# Altium integrated library Silicon Labs Small Form Factor MCUs.IntLib: 100 symbols (part 5 of 5)
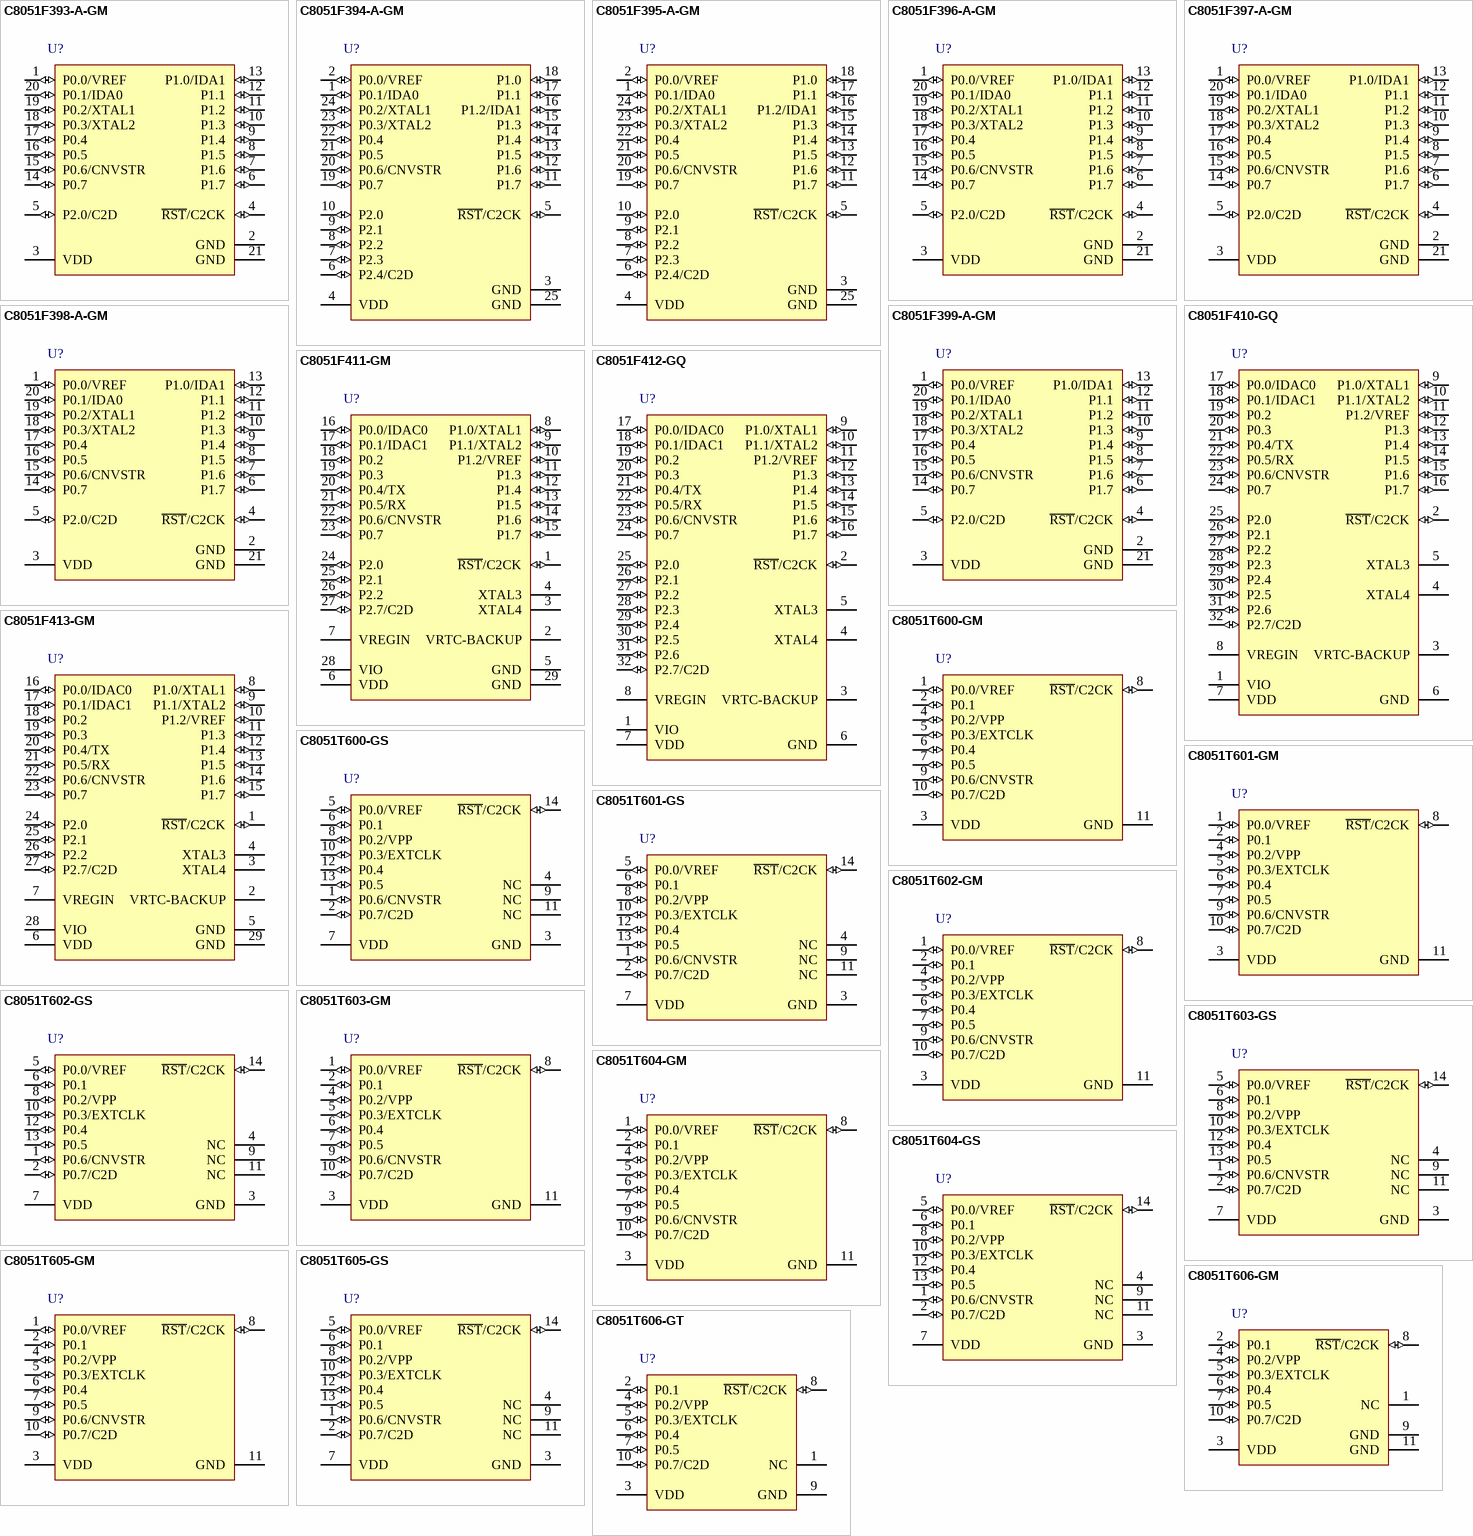
[diagram p8: symbols C8051F393-A-GM to C8051T606-GT]

## C8051T602-GM
designator U?
Mixed-Signal Byte-Programmable EPROM MCU, 25 MHz, 0.25 kB RAM, 4 kB OTP Flash, -40 to 85 degC, 11-pin QFN; Manufacturer: Silicon Labs; PartNumber: C8051T602-GM; ADC 1: 10-bit, 8-ch., 500 ksps; Comparators: 1; Debug Interface: C2; Dig I/O Pins: 8; Flash: 4 kB OTP; Internal Osc. Accuracy: +/-2%; MCU Core: 8051; MHz: 25; PCA Channels: 3; RAM: 0.25 kB; Temp Sensor: TRUE; Sub-Family: Small Form Factor MCUs; DatasheetVersion: Rev. 1.2; PackageReference: QFN-11; PackageDescription: 11-Pin Quad-Flat No-Leads Package, Body 3 x 3 mm, Pitch 0.5 mm; Supplier 1: Digi-Key; Supplier Part Number 1: 336-1654-5-ND; Supplier 2: Mouser; Supplier Part Number 2: 634-C8051T602-GM; Timers (16-bit): 3; Mounting Technology: Surface Mount; Code_JEDEC: MO-243; Code_IPC: J-STD-020C; ComponentLink1Description: Manufacturer URL; ComponentLink1URL: http://www.silabs.com/; ComponentLink2Description: Datasheet; ComponentLink2URL: http://www.silabs.com/Support Documents/TechnicalDocs/C8051T60x.pdf; ComponentLink3Description: Package Specification; ComponentLink3URL: http://www.silabs.com/Support%20Documents/TechnicalDocs/Si3462.pdf
footprint SLAB-QFN-11-1350x2250TP_N (QFN, 11-Leads, Body 3x3mm, Pitch 0.5mm, Thermal Pad 3x1.35mm, IPC Medium Density)
footprint SLAB-QFN-11-1350x2250TP_L (QFN, 11-Leads, Body 3x3mm, Pitch 0.5mm, Thermal Pad 3x1.35mm, IPC High Density)
footprint SLAB-QFN-11-1350x2250TP_M (QFN, 11-Leads, Body 3x3mm, Pitch 0.5mm, Thermal Pad 3x1.35mm, IPC Low Density)
pins: 1 P0.0/VREF (io), 2 P0.1 (io) "Port 0.1.", 3 VDD (power) "Power Supply Voltage.", 4 P0.2/VPP (io), 5 P0.3/EXTCLK (io), 6 P0.4 (io) "Port 0.4.", 7 P0.5 (io) "Port 0.5.", 8 ~{RST}/C2CK (io), 9 P0.6/CNVSTR (io), 10 P0.7/C2D (io), 11 GND (power) "Ground (Optional)."

## C8051T602-GS
designator U?
Mixed-Signal Byte-Programmable EPROM MCU, 25 MHz, 0.25 kB RAM, 4 kB OTP Flash, -40 to 85 degC, 14-pin SOIC; Manufacturer: Silicon Labs; PartNumber: C8051T602-GS; ADC 1: 10-bit, 8-ch., 500 ksps; Comparators: 1; Debug Interface: C2; Dig I/O Pins: 8; Flash: 4 kB OTP; Internal Osc. Accuracy: +/-2%; MCU Core: 8051; MHz: 25; PCA Channels: 3; RAM: 0.25 kB; Temp Sensor: TRUE; Sub-Family: Small Form Factor MCUs; DatasheetVersion: Rev. 1.2; PackageReference: SOIC-14; PackageDescription: 14-Pin Small-Outline Integrated Circuit, Body 8.65 x 3.9 mm, Pitch 1.27 mm; Supplier 1: Digi-Key; Supplier Part Number 1: 336-1655-5-ND; Supplier 2: Mouser; Supplier Part Number 2: 634-C8051T602-GS; Timers (16-bit): 3; Mounting Technology: Surface Mount; Code_JEDEC: MS012; Code_IPC: J-STD-020; ComponentLink1Description: Manufacturer URL; ComponentLink1URL: http://www.silabs.com/; ComponentLink2Description: Datasheet; ComponentLink2URL: http://www.silabs.com/Support Documents/TechnicalDocs/C8051T60x.pdf; ComponentLink3Description: Package Specification; ComponentLink3URL: http://www.silabs.com/Support Documents/TechnicalDocs/C8051T60x.pdf
footprint SLAB-SOIC-14_N (SOIC, 14-Leads, Body 8.65x3.9mm, Pitch 1.27mm, IPC Medium Density)
footprint SLAB-SOIC-14_L (SOIC, 14-Leads, Body 8.65x3.9mm, Pitch 1.27mm, IPC High Density)
footprint SLAB-SOIC-14_M (SOIC, 14-Leads, Body 8.65x3.9mm, Pitch 1.27mm, IPC Low Density)
pins: 1 P0.6/CNVSTR (io), 2 P0.7/C2D (io), 3 GND (power) "Ground.", 4 NC "No Connection.", 5 P0.0/VREF (io), 6 P0.1 (io) "Port 0.1.", 7 VDD (power) "Power Supply Voltage.", 8 P0.2/VPP (io), 9 NC "No Connection.", 10 P0.3/EXTCLK (io), 11 NC "No Connection.", 12 P0.4 (io) "Port 0.4.", 13 P0.5 (io) "Port 0.5.", 14 ~{RST}/C2CK (io)

## C8051T603-GM
designator U?
Mixed-Signal Byte-Programmable EPROM MCU, 25 MHz, 0.25 kB RAM, 4 kB OTP Flash, -40 to 85 degC, 11-pin QFN; Manufacturer: Silicon Labs; PartNumber: C8051T603-GM; Comparators: 1; Debug Interface: C2; Dig I/O Pins: 8; Flash: 4 kB OTP; Internal Osc. Accuracy: +/-2%; MCU Core: 8051; MHz: 25; PCA Channels: 3; RAM: 0.25 kB; Temp Sensor: FALSE; Sub-Family: Small Form Factor MCUs; DatasheetVersion: Rev. 1.2; PackageReference: QFN-11; PackageDescription: 11-Pin Quad-Flat No-Leads Package, Body 3 x 3 mm, Pitch 0.5 mm; Supplier 1: Digi-Key; Supplier Part Number 1: 336-1656-5-ND; Supplier 2: Mouser; Supplier Part Number 2: 634-C8051T603-GM; Timers (16-bit): 3; Mounting Technology: Surface Mount; Code_JEDEC: MO-243; Code_IPC: J-STD-020C; ComponentLink1Description: Manufacturer URL; ComponentLink1URL: http://www.silabs.com/; ComponentLink2Description: Datasheet; ComponentLink2URL: http://www.silabs.com/Support Documents/TechnicalDocs/C8051T60x.pdf; ComponentLink3Description: Package Specification; ComponentLink3URL: http://www.silabs.com/Support%20Documents/TechnicalDocs/Si3462.pdf
footprint SLAB-QFN-11-1350x2250TP_N (QFN, 11-Leads, Body 3x3mm, Pitch 0.5mm, Thermal Pad 3x1.35mm, IPC Medium Density)
footprint SLAB-QFN-11-1350x2250TP_L (QFN, 11-Leads, Body 3x3mm, Pitch 0.5mm, Thermal Pad 3x1.35mm, IPC High Density)
footprint SLAB-QFN-11-1350x2250TP_M (QFN, 11-Leads, Body 3x3mm, Pitch 0.5mm, Thermal Pad 3x1.35mm, IPC Low Density)
pins: 1 P0.0/VREF (io), 2 P0.1 (io) "Port 0.1.", 3 VDD (power) "Power Supply Voltage.", 4 P0.2/VPP (io), 5 P0.3/EXTCLK (io), 6 P0.4 (io) "Port 0.4.", 7 P0.5 (io) "Port 0.5.", 8 ~{RST}/C2CK (io), 9 P0.6/CNVSTR (io), 10 P0.7/C2D (io), 11 GND (power) "Ground (Optional)."

## C8051T603-GS
designator U?
Mixed-Signal Byte-Programmable EPROM MCU, 25 MHz, 0.25 kB RAM, 4 kB OTP Flash, -40 to 85 degC, 14-pin SOIC; Manufacturer: Silicon Labs; PartNumber: C8051T603-GS; Comparators: 1; Debug Interface: C2; Dig I/O Pins: 8; Flash: 4 kB OTP; Internal Osc. Accuracy: +/-2%; MCU Core: 8051; MHz: 25; PCA Channels: 3; RAM: 0.25 kB; Temp Sensor: FALSE; Sub-Family: Small Form Factor MCUs; DatasheetVersion: Rev. 1.2; PackageReference: SOIC-14; PackageDescription: 14-Pin Small-Outline Integrated Circuit, Body 8.65 x 3.9 mm, Pitch 1.27 mm; Supplier 1: Digi-Key; Supplier Part Number 1: 336-1657-5-ND; Supplier 2: Mouser; Supplier Part Number 2: 634-C8051T603-GS; Timers (16-bit): 3; Mounting Technology: Surface Mount; Code_JEDEC: MS012; Code_IPC: J-STD-020; ComponentLink1Description: Manufacturer URL; ComponentLink1URL: http://www.silabs.com/; ComponentLink2Description: Datasheet; ComponentLink2URL: http://www.silabs.com/Support Documents/TechnicalDocs/C8051T60x.pdf; ComponentLink3Description: Package Specification; ComponentLink3URL: http://www.silabs.com/Support Documents/TechnicalDocs/C8051T60x.pdf
footprint SLAB-SOIC-14_N (SOIC, 14-Leads, Body 8.65x3.9mm, Pitch 1.27mm, IPC Medium Density)
footprint SLAB-SOIC-14_L (SOIC, 14-Leads, Body 8.65x3.9mm, Pitch 1.27mm, IPC High Density)
footprint SLAB-SOIC-14_M (SOIC, 14-Leads, Body 8.65x3.9mm, Pitch 1.27mm, IPC Low Density)
pins: 1 P0.6/CNVSTR (io), 2 P0.7/C2D (io), 3 GND (power) "Ground.", 4 NC "No Connection.", 5 P0.0/VREF (io), 6 P0.1 (io) "Port 0.1.", 7 VDD (power) "Power Supply Voltage.", 8 P0.2/VPP (io), 9 NC "No Connection.", 10 P0.3/EXTCLK (io), 11 NC "No Connection.", 12 P0.4 (io) "Port 0.4.", 13 P0.5 (io) "Port 0.5.", 14 ~{RST}/C2CK (io)

## C8051T604-GM
designator U?
Mixed-Signal Byte-Programmable EPROM MCU, 25 MHz, 0.25 kB RAM, 2 kB OTP Flash, -40 to 85 degC, 11-pin QFN; Manufacturer: Silicon Labs; PartNumber: C8051T604-GM; ADC 1: 10-bit, 8-ch., 500 ksps; Comparators: 1; Debug Interface: C2; Dig I/O Pins: 8; Flash: 2 kB OTP; Internal Osc. Accuracy: +/-2%; MCU Core: 8051; MHz: 25; PCA Channels: 3; RAM: 0.25 kB; Temp Sensor: TRUE; Sub-Family: Small Form Factor MCUs; DatasheetVersion: Rev. 1.2; PackageReference: QFN-11; PackageDescription: 11-Pin Quad-Flat No-Leads Package, Body 3 x 3 mm, Pitch 0.5 mm; Supplier 1: Digi-Key; Supplier Part Number 1: 336-1658-5-ND; Supplier 2: Mouser; Supplier Part Number 2: 634-C8051T604-GM; Timers (16-bit): 3; Mounting Technology: Surface Mount; Code_JEDEC: MO-243; Code_IPC: J-STD-020C; ComponentLink1Description: Manufacturer URL; ComponentLink1URL: http://www.silabs.com/; ComponentLink2Description: Datasheet; ComponentLink2URL: http://www.silabs.com/Support Documents/TechnicalDocs/C8051T60x.pdf; ComponentLink3Description: Package Specification; ComponentLink3URL: http://www.silabs.com/Support%20Documents/TechnicalDocs/Si3462.pdf
footprint SLAB-QFN-11-1350x2250TP_N (QFN, 11-Leads, Body 3x3mm, Pitch 0.5mm, Thermal Pad 3x1.35mm, IPC Medium Density)
footprint SLAB-QFN-11-1350x2250TP_L (QFN, 11-Leads, Body 3x3mm, Pitch 0.5mm, Thermal Pad 3x1.35mm, IPC High Density)
footprint SLAB-QFN-11-1350x2250TP_M (QFN, 11-Leads, Body 3x3mm, Pitch 0.5mm, Thermal Pad 3x1.35mm, IPC Low Density)
pins: 1 P0.0/VREF (io), 2 P0.1 (io) "Port 0.1.", 3 VDD (power) "Power Supply Voltage.", 4 P0.2/VPP (io), 5 P0.3/EXTCLK (io), 6 P0.4 (io) "Port 0.4.", 7 P0.5 (io) "Port 0.5.", 8 ~{RST}/C2CK (io), 9 P0.6/CNVSTR (io), 10 P0.7/C2D (io), 11 GND (power) "Ground (Optional)."

## C8051T604-GS
designator U?
Mixed-Signal Byte-Programmable EPROM MCU, 25 MHz, 0.25 kB RAM, 2 kB OTP Flash, -40 to 85 degC, 14-pin SOIC; Manufacturer: Silicon Labs; PartNumber: C8051T604-GS; ADC 1: 10-bit, 8-ch., 500 ksps; Comparators: 1; Debug Interface: C2; Dig I/O Pins: 8; Flash: 2 kB OTP; Internal Osc. Accuracy: +/-2%; MCU Core: 8051; MHz: 25; PCA Channels: 3; RAM: 0.25 kB; Temp Sensor: TRUE; Sub-Family: Small Form Factor MCUs; DatasheetVersion: Rev. 1.2; PackageReference: SOIC-14; PackageDescription: 14-Pin Small-Outline Integrated Circuit, Body 8.65 x 3.9 mm, Pitch 1.27 mm; Supplier 1: Digi-Key; Supplier Part Number 1: 336-1659-5-ND; Supplier 2: Mouser; Supplier Part Number 2: 634-C8051T604-GS; Timers (16-bit): 3; Mounting Technology: Surface Mount; Code_JEDEC: MS012; Code_IPC: J-STD-020; ComponentLink1Description: Manufacturer URL; ComponentLink1URL: http://www.silabs.com/; ComponentLink2Description: Datasheet; ComponentLink2URL: http://www.silabs.com/Support Documents/TechnicalDocs/C8051T60x.pdf; ComponentLink3Description: Package Specification; ComponentLink3URL: http://www.silabs.com/Support Documents/TechnicalDocs/C8051T60x.pdf
footprint SLAB-SOIC-14_N (SOIC, 14-Leads, Body 8.65x3.9mm, Pitch 1.27mm, IPC Medium Density)
footprint SLAB-SOIC-14_L (SOIC, 14-Leads, Body 8.65x3.9mm, Pitch 1.27mm, IPC High Density)
footprint SLAB-SOIC-14_M (SOIC, 14-Leads, Body 8.65x3.9mm, Pitch 1.27mm, IPC Low Density)
pins: 1 P0.6/CNVSTR (io), 2 P0.7/C2D (io), 3 GND (power) "Ground.", 4 NC "No Connection.", 5 P0.0/VREF (io), 6 P0.1 (io) "Port 0.1.", 7 VDD (power) "Power Supply Voltage.", 8 P0.2/VPP (io), 9 NC "No Connection.", 10 P0.3/EXTCLK (io), 11 NC "No Connection.", 12 P0.4 (io) "Port 0.4.", 13 P0.5 (io) "Port 0.5.", 14 ~{RST}/C2CK (io)

## C8051T605-GM
designator U?
Mixed-Signal Byte-Programmable EPROM MCU, 25 MHz, 0.25 kB RAM, 2 kB OTP Flash, -40 to 85 degC, 11-pin QFN; Manufacturer: Silicon Labs; PartNumber: C8051T605-GM; Comparators: 1; Debug Interface: C2; Dig I/O Pins: 8; Flash: 2 kB OTP; Internal Osc. Accuracy: +/-2%; MCU Core: 8051; MHz: 25; PCA Channels: 3; RAM: 0.25 kB; Temp Sensor: FALSE; Sub-Family: Small Form Factor MCUs; DatasheetVersion: Rev. 1.2; PackageReference: QFN-11; PackageDescription: 11-Pin Quad-Flat No-Leads Package, Body 3 x 3 mm, Pitch 0.5 mm; Supplier 1: Digi-Key; Supplier Part Number 1: 336-1660-5-ND; Supplier 2: Mouser; Supplier Part Number 2: 634-C8051T605-GM; Timers (16-bit): 3; Mounting Technology: Surface Mount; Code_JEDEC: MO-243; Code_IPC: J-STD-020C; ComponentLink1Description: Manufacturer URL; ComponentLink1URL: http://www.silabs.com/; ComponentLink2Description: Datasheet; ComponentLink2URL: http://www.silabs.com/Support Documents/TechnicalDocs/C8051T60x.pdf; ComponentLink3Description: Package Specification; ComponentLink3URL: http://www.silabs.com/Support%20Documents/TechnicalDocs/Si3462.pdf
footprint SLAB-QFN-11-1350x2250TP_N (QFN, 11-Leads, Body 3x3mm, Pitch 0.5mm, Thermal Pad 3x1.35mm, IPC Medium Density)
footprint SLAB-QFN-11-1350x2250TP_L (QFN, 11-Leads, Body 3x3mm, Pitch 0.5mm, Thermal Pad 3x1.35mm, IPC High Density)
footprint SLAB-QFN-11-1350x2250TP_M (QFN, 11-Leads, Body 3x3mm, Pitch 0.5mm, Thermal Pad 3x1.35mm, IPC Low Density)
pins: 1 P0.0/VREF (io), 2 P0.1 (io) "Port 0.1.", 3 VDD (power) "Power Supply Voltage.", 4 P0.2/VPP (io), 5 P0.3/EXTCLK (io), 6 P0.4 (io) "Port 0.4.", 7 P0.5 (io) "Port 0.5.", 8 ~{RST}/C2CK (io), 9 P0.6/CNVSTR (io), 10 P0.7/C2D (io), 11 GND (power) "Ground (Optional)."

## C8051T605-GS
designator U?
Mixed-Signal Byte-Programmable EPROM MCU, 25 MHz, 0.25 kB RAM, 2 kB OTP Flash, -40 to 85 degC, 14-pin SOIC; Manufacturer: Silicon Labs; PartNumber: C8051T605-GS; Comparators: 1; Debug Interface: C2; Dig I/O Pins: 8; Flash: 2 kB OTP; Internal Osc. Accuracy: +/-2%; MCU Core: 8051; MHz: 25; PCA Channels: 3; RAM: 0.25 kB; Temp Sensor: FALSE; Sub-Family: Small Form Factor MCUs; DatasheetVersion: Rev. 1.2; PackageReference: SOIC-14; PackageDescription: 14-Pin Small-Outline Integrated Circuit, Body 8.65 x 3.9 mm, Pitch 1.27 mm; Supplier 1: Digi-Key; Supplier Part Number 1: 336-1661-5-ND; Supplier 2: Mouser; Supplier Part Number 2: 634-C8051T605-GS; Timers (16-bit): 3; Mounting Technology: Surface Mount; Code_JEDEC: MS012; Code_IPC: J-STD-020; ComponentLink1Description: Manufacturer URL; ComponentLink1URL: http://www.silabs.com/; ComponentLink2Description: Datasheet; ComponentLink2URL: http://www.silabs.com/Support Documents/TechnicalDocs/C8051T60x.pdf; ComponentLink3Description: Package Specification; ComponentLink3URL: http://www.silabs.com/Support Documents/TechnicalDocs/C8051T60x.pdf
footprint SLAB-SOIC-14_N (SOIC, 14-Leads, Body 8.65x3.9mm, Pitch 1.27mm, IPC Medium Density)
footprint SLAB-SOIC-14_L (SOIC, 14-Leads, Body 8.65x3.9mm, Pitch 1.27mm, IPC High Density)
footprint SLAB-SOIC-14_M (SOIC, 14-Leads, Body 8.65x3.9mm, Pitch 1.27mm, IPC Low Density)
pins: 1 P0.6/CNVSTR (io), 2 P0.7/C2D (io), 3 GND (power) "Ground.", 4 NC "No Connection.", 5 P0.0/VREF (io), 6 P0.1 (io) "Port 0.1.", 7 VDD (power) "Power Supply Voltage.", 8 P0.2/VPP (io), 9 NC "No Connection.", 10 P0.3/EXTCLK (io), 11 NC "No Connection.", 12 P0.4 (io) "Port 0.4.", 13 P0.5 (io) "Port 0.5.", 14 ~{RST}/C2CK (io)

## C8051T606-GM
designator U?
Mixed-Signal Byte-Programmable EPROM MCU, 25 MHz, 0.125 kB RAM, 1.5 kB OTP Flash, -40 to 85 degC, 11-pin QFN; Manufacturer: Silicon Labs; PartNumber: C8051T606-GM; Comparators: 1; Debug Interface: C2; Dig I/O Pins: 6; Internal Osc. Accuracy: +/-2%; MCU Core: 8051; MHz: 25; PCA Channels: 3; Temp Sensor: FALSE; Sub-Family: Small Form Factor MCUs; DatasheetVersion: Rev. 1.2; PackageReference: QFN-11; PackageDescription: 11-Pin Quad-Flat No-Leads Package, Body 3 x 3 mm, Pitch 0.5 mm; Supplier 1: Digi-Key; Supplier Part Number 1: 336-1662-5-ND; Supplier 2: Mouser; Supplier Part Number 2: 634-C8051T606-GM; Flash: 1.5 kB OTP; RAM: 0.125 kB; Timers (16-bit): 3; Mounting Technology: Surface Mount; Code_JEDEC: MO-243; Code_IPC: J-STD-020C; ComponentLink1Description: Manufacturer URL; ComponentLink1URL: http://www.silabs.com/; ComponentLink2Description: Datasheet; ComponentLink2URL: http://www.silabs.com/Support Documents/TechnicalDocs/C8051T60x.pdf; ComponentLink3Description: Package Specification; ComponentLink3URL: http://www.silabs.com/Support%20Documents/TechnicalDocs/Si3462.pdf
footprint SLAB-QFN-11-1350x2250TP_N (QFN, 11-Leads, Body 3x3mm, Pitch 0.5mm, Thermal Pad 3x1.35mm, IPC Medium Density)
footprint SLAB-QFN-11-1350x2250TP_L (QFN, 11-Leads, Body 3x3mm, Pitch 0.5mm, Thermal Pad 3x1.35mm, IPC High Density)
footprint SLAB-QFN-11-1350x2250TP_M (QFN, 11-Leads, Body 3x3mm, Pitch 0.5mm, Thermal Pad 3x1.35mm, IPC Low Density)
pins: 1 NC "No Connection.", 2 P0.1 (io) "Port 0.1.", 3 VDD (power) "Power Supply Voltage.", 4 P0.2/VPP (io), 5 P0.3/EXTCLK (io), 6 P0.4 (io) "Port 0.4.", 7 P0.5 (io) "Port 0.5.", 8 ~{RST}/C2CK (io), 9 GND (power) "Ground (Required).", 10 P0.7/C2D (io), 11 GND (power) "Ground (Optional)."

## C8051T606-GT
designator U?
Mixed-Signal Byte-Programmable EPROM MCU, 25 MHz, 0.125 kB RAM, 1.5 kB OTP Flash, -40 to 85 degC, 10-pin SOP; Manufacturer: Silicon Labs; PartNumber: C8051T606-GT; Comparators: 1; Debug Interface: C2; Dig I/O Pins: 6; Internal Osc. Accuracy: +/-2%; MCU Core: 8051; MHz: 25; PCA Channels: 3; Temp Sensor: FALSE; Sub-Family: Small Form Factor MCUs; DatasheetVersion: Rev. 1.2; PackageReference: MSOP-10; PackageDescription: 10-Pin Mini Small Outline Package, Body 3 x 3 mm, Pitch 0.5 mm; Supplier 1: Digi-Key; Supplier Part Number 1: 336-1664-5-ND; Supplier 2: Mouser; Supplier Part Number 2: 634-C8051T606-GT; Flash: 1.5 kB OTP; RAM: 0.125 kB; Timers (16-bit): 3; Mounting Technology: Surface Mount; Code_JEDEC: MO-187; Code_IPC: J-STD-020; ComponentLink1Description: Manufacturer URL; ComponentLink1URL: http://www.silabs.com/; ComponentLink2Description: Datasheet; ComponentLink2URL: http://www.silabs.com/Support Documents/TechnicalDocs/C8051T60x.pdf; ComponentLink3Description: Package Specification; ComponentLink3URL: http://www.silabs.com/Support Documents/TechnicalDocs/C8051T60x.pdf
footprint SLAB-MSOP-10_N (SOP, 10-Leads, Body 3x3mm, Pitch 0.5mm, IPC Medium Density)
footprint SLAB-MSOP-10_L (SOP, 10-Leads, Body 3x3mm, Pitch 0.5mm, IPC High Density)
footprint SLAB-MSOP-10_M (SOP, 10-Leads, Body 3x3mm, Pitch 0.5mm, IPC Low Density)
pins: 1 NC "No Connection.", 2 P0.1 (io) "Port 0.1.", 3 VDD (power) "Power Supply Voltage.", 4 P0.2/VPP (io), 5 P0.3/EXTCLK (io), 6 P0.4 (io) "Port 0.4.", 7 P0.5 (io) "Port 0.5.", 8 ~{RST}/C2CK (io), 9 GND (power) "Ground (Required).", 10 P0.7/C2D (io)

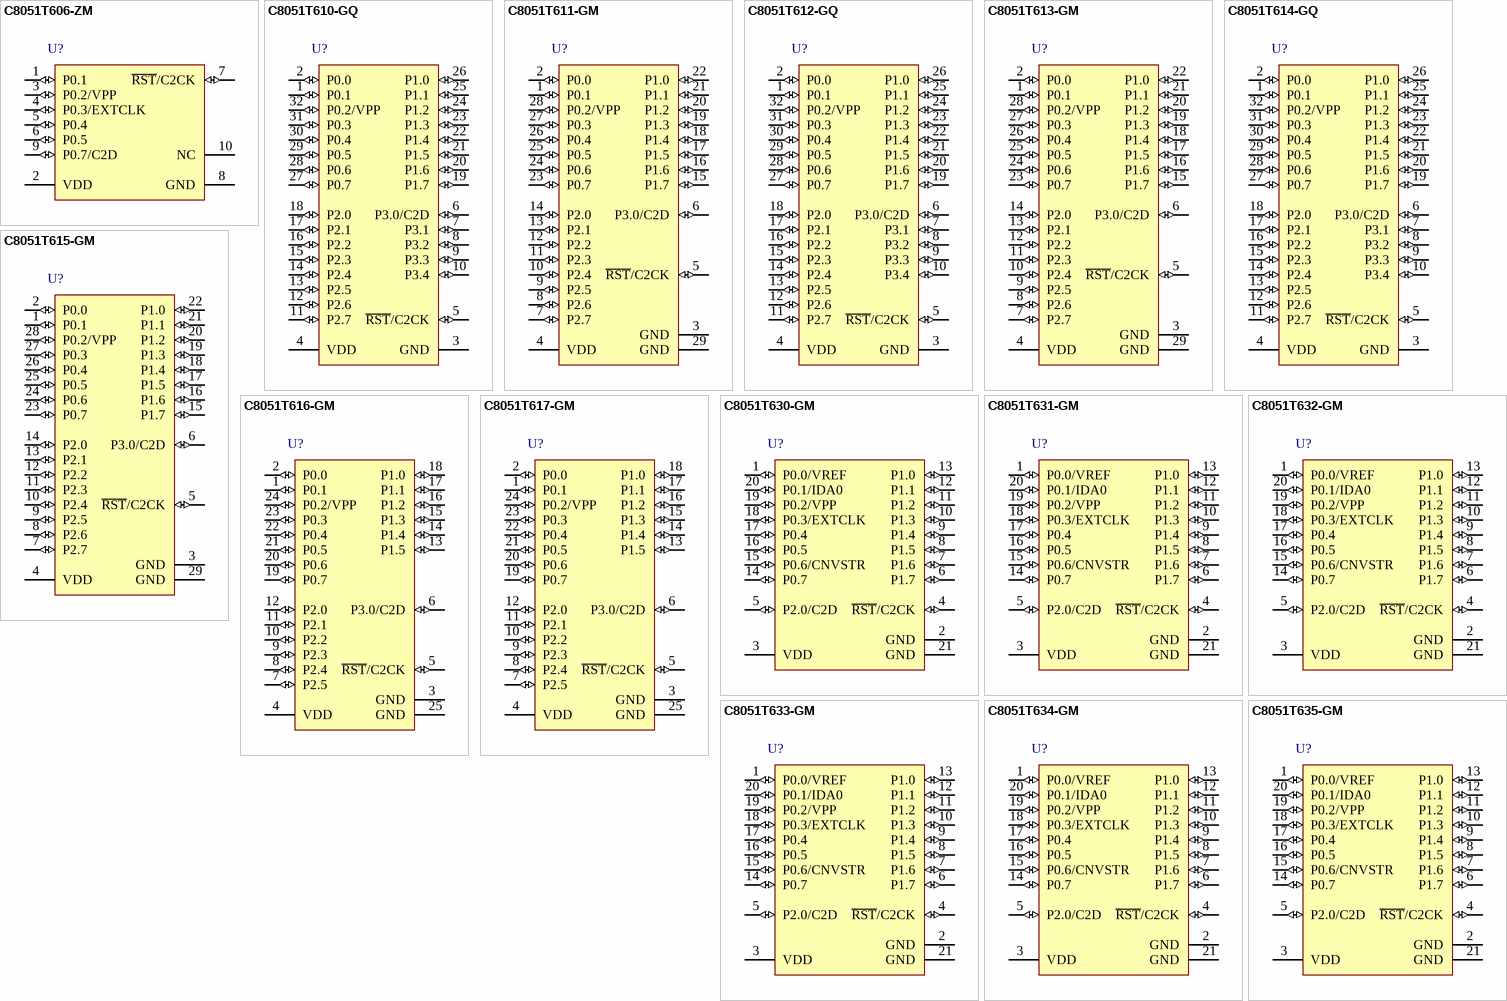
[diagram p4: symbols C8051T606-ZM to C8051T635-GM]

## C8051T606-ZM
designator U?
Mixed-Signal Byte-Programmable EPROM MCU, 25 MHz, 0.125 kB RAM, 1.5 kB OTP Flash, -40 to 85 degC, 10-pin QFN; Manufacturer: Silicon Labs; PartNumber: C8051T606-ZM; Comparators: 1; Debug Interface: C2; Dig I/O Pins: 6; Internal Osc. Accuracy: +/-2%; MCU Core: 8051; MHz: 25; PCA Channels: 3; Temp Sensor: FALSE; Sub-Family: Small Form Factor MCUs; DatasheetVersion: Rev. 1.2; PackageReference: QFN-10; PackageDescription: 10-Pin Quad-Flat No-Leads Package, Body 2 x 2 mm, Pitch 0.5 mm; Supplier 1: Digi-Key; Supplier Part Number 1: C8051T606-ZM-ND; Supplier 2: Mouser; Supplier Part Number 2: 634-C8051T606-ZM; Flash: 1.5 kB OTP; RAM: 0.125 kB; Timers (16-bit): 3; Mounting Technology: Surface Mount; Code_JEDEC: MO-220; Code_IPC: J-STD-020; ComponentLink1Description: Manufacturer URL; ComponentLink1URL: http://www.silabs.com/; ComponentLink2Description: Datasheet; ComponentLink2URL: http://www.silabs.com/Support Documents/TechnicalDocs/C8051T60x.pdf; ComponentLink3Description: Package Specification; ComponentLink3URL: http://www.silabs.com/Support%20Documents/TechnicalDocs/Si114x.pdf
footprint SLAB-QFN-10_V (QFN, 10-Leads, Body 2x2mm, Pitch 0.5mm)
pins: 1 P0.1 (io) "Port 0.1.", 2 VDD (power) "Power Supply Voltage.", 3 P0.2/VPP (io), 4 P0.3/EXTCLK (io), 5 P0.4 (io) "Port 0.4.", 6 P0.5 (io) "Port 0.5.", 7 ~{RST}/C2CK (io), 8 GND (power) "Ground (Required).", 9 P0.7/C2D (io), 10 NC "No Connection."

## C8051T610-GQ
designator U?
Mixed-Signal Byte-Programmable EPROM MCU, 25 MHz, 1.25 kB RAM, 16 kB OTP Flash, -40 to 85 degC, 32-pin QFP; Manufacturer: Silicon Labs; PartNumber: C8051T610-GQ; ADC 1: 10-bit, 21-ch., 500 ksps; Comparators: 2; Debug Interface: C2; Dig I/O Pins: 29; Internal Osc. Accuracy: +/-2%; MCU Core: 8051; MHz: 25; PCA Channels: 5; RAM: 1.25 kB; Temp Sensor: TRUE; Timers (16-bit): 4; Sub-Family: Small Form Factor MCUs; DatasheetVersion: Rev. 1.1; PackageReference: LQFP-32; PackageDescription: 32-Pin Low-Profile Quad Flat Pack, Body 7 x 7 mm, Pitch 0.8 mm; Supplier 1: Digi-Key; Supplier Part Number 1: 336-1435-ND; Supplier 2: Mouser; Supplier Part Number 2: 634-C8051T610-GQ; Flash: 16 kB OTP; Mounting Technology: Surface Mount; Code_JEDEC: MS-026; Code_IPC: J-STD-020; ComponentLink1Description: Manufacturer URL; ComponentLink1URL: http://www.silabs.com/; ComponentLink2Description: Datasheet; ComponentLink2URL: http://www.silabs.com/Support Documents/TechnicalDocs/C8051T61x.pdf; ComponentLink3Description: Package Specification; ComponentLink3URL: http://www.silabs.com/Support%20Documents/TechnicalDocs/C8051F38x.pdf
footprint SLAB-LQFP-32_N (QFP, 32-Leads, Body 7x7mm, Pitch 0.8mm, IPC Medium Density)
footprint SLAB-LQFP-32_L (QFP, 32-Leads, Body 7x7mm, Pitch 0.8mm, IPC High Density)
footprint SLAB-LQFP-32_M (QFP, 32-Leads, Body 7x7mm, Pitch 0.8mm, IPC Low Density)
pins: 1 P0.1 (io) "Port 0.1.", 2 P0.0 (io) "Port 0.0.", 3 GND (power) "Ground.", 4 VDD (power) "Power Supply Voltage.", 5 ~{RST}/C2CK (io), 6 P3.0/C2D (io), 7 P3.1 (io) "Port 3.1.", 8 P3.2 (io) "Port 3.2.", 9 P3.3 (io) "Port 3.3.", 10 P3.4 (io) "Port 3.4.", 11 P2.7 (io) "Port 2.7.", 12 P2.6 (io) "Port 2.6.", 13 P2.5 (io) "Port 2.5.", 14 P2.4 (io) "Port 2.4.", 15 P2.3 (io) "Port 2.3.", 16 P2.2 (io) "Port 2.2.", 17 P2.1 (io) "Port 2.1.", 18 P2.0 (io) "Port 2.0", 19 P1.7 (io) "Port 1.7.", 20 P1.6 (io) "Port 1.6.", 21 P1.5 (io) "Port 1.5.", 22 P1.4 (io) "Port 1.4.", 23 P1.3 (io) "Port 1.3.", 24 P1.2 (io) "Port 1.2.", 25 P1.1 (io) "Port 1.1.", 26 P1.0 (io) "Port 1.0", 27 P0.7 (io) "Port 0.7", 28 P0.6 (io) "Port 0.6", 29 P0.5 (io) "Port 0.5", 30 P0.4 (io) "Port 0.4", 31 P0.3 (io) "Port 0.3", 32 P0.2/VPP (io)

## C8051T611-GM
designator U?
Mixed-Signal Byte-Programmable EPROM MCU, 25 MHz, 1.25 kB RAM, 16 kB OTP Flash, -40 to 85 degC, 28-pin QFN; Manufacturer: Silicon Labs; PartNumber: C8051T611-GM; ADC 1: 10-bit, 17-ch., 500 ksps; Comparators: 2; Debug Interface: C2; Dig I/O Pins: 25; Internal Osc. Accuracy: +/-2%; MCU Core: 8051; PCA Channels: 5; RAM: 1.25 kB; Temp Sensor: TRUE; Timers (16-bit): 4; Sub-Family: Small Form Factor MCUs; DatasheetVersion: Rev. 1.1; PackageReference: QFN-28; PackageDescription: 28-Pin Quad-Flat No-Leads Package, Body 5 x 5 mm, Pitch 0.5 mm; Supplier 1: Digi-Key; Supplier Part Number 1: 336-1436-5-ND; Supplier 2: Mouser; Supplier Part Number 2: 634-C8051T611-GM; Flash: 16 kB OTP; MHz: 25; Mounting Technology: Surface Mount; Code_JEDEC: MO-220; Code_IPC: J-STD-020C; ComponentLink1Description: Manufacturer URL; ComponentLink1URL: http://www.silabs.com/; ComponentLink2Description: Datasheet; ComponentLink2URL: http://www.silabs.com/Support Documents/TechnicalDocs/C8051T61x.pdf; ComponentLink3Description: Package Specification; ComponentLink3URL: http://www.silabs.com/Support%20Documents/TechnicalDocs/C8051T61x.pdf
footprint SLAB-QFN-28-3125x3125TP_N (QFN, 28-Leads, Body 5x5mm, Pitch 0.5mm, Thermal Pad 3.13x3.13mm, IPC Medium Density)
footprint SLAB-QFN-28-3125x3125TP_L (QFN, 28-Leads, Body 5x5mm, Pitch 0.5mm, Thermal Pad 3.13x3.13mm, IPC High Density)
footprint SLAB-QFN-28-3125x3125TP_M (QFN, 28-Leads, Body 5x5mm, Pitch 0.5mm, Thermal Pad 3.13x3.13mm, IPC Low Density)
pins: 1 P0.1 (io) "Port 0.1.", 2 P0.0 (io) "Port 0.0.", 3 GND (power) "Ground.", 4 VDD (power) "Power Supply Voltage.", 5 ~{RST}/C2CK (io), 6 P3.0/C2D (io), 7 P2.7 (io) "Port 2.7.", 8 P2.6 (io) "Port 2.6.", 9 P2.5 (io) "Port 2.5.", 10 P2.4 (io) "Port 2.4.", 11 P2.3 (io) "Port 2.3.", 12 P2.2 (io) "Port 2.2.", 13 P2.1 (io) "Port 2.1.", 14 P2.0 (io) "Port 2.0", 15 P1.7 (io) "Port 1.7.", 16 P1.6 (io) "Port 1.6.", 17 P1.5 (io) "Port 1.5.", 18 P1.4 (io) "Port 1.4.", 19 P1.3 (io) "Port 1.3.", 20 P1.2 (io) "Port 1.2.", 21 P1.1 (io) "Port 1.1.", 22 P1.0 (io) "Port 1.0", 23 P0.7 (io) "Port 0.7", 24 P0.6 (io) "Port 0.6", 25 P0.5 (io) "Port 0.5", 26 P0.4 (io) "Port 0.4", 27 P0.3 (io) "Port 0.3", 28 P0.2/VPP (io), 29 GND (power)

## C8051T612-GQ
designator U?
Mixed-Signal Byte-Programmable EPROM MCU, 25 MHz, 1.25 kB RAM, 8 kB OTP Flash, -40 to 85 degC, 32-pin QFP; Manufacturer: Silicon Labs; PartNumber: C8051T612-GQ; ADC 1: 10-bit, 21-ch., 500 ksps; Comparators: 2; Debug Interface: C2; Dig I/O Pins: 29; Flash: 8 kB OTP; Internal Osc. Accuracy: +/-2%; MCU Core: 8051; MHz: 25; PCA Channels: 5; RAM: 1.25 kB; Temp Sensor: TRUE; Timers (16-bit): 4; Sub-Family: Small Form Factor MCUs; DatasheetVersion: Rev. 1.1; PackageReference: LQFP-32; PackageDescription: 32-Pin Low-Profile Quad Flat Pack, Body 7 x 7 mm, Pitch 0.8 mm; Supplier 1: Digi-Key; Supplier Part Number 1: 336-1439-ND; Supplier 2: Mouser; Supplier Part Number 2: 634-C8051T612-GQ; Mounting Technology: Surface Mount; Code_JEDEC: MS-026; Code_IPC: J-STD-020; ComponentLink1Description: Manufacturer URL; ComponentLink1URL: http://www.silabs.com/; ComponentLink2Description: Datasheet; ComponentLink2URL: http://www.silabs.com/Support Documents/TechnicalDocs/C8051T61x.pdf; ComponentLink3Description: Package Specification; ComponentLink3URL: http://www.silabs.com/Support%20Documents/TechnicalDocs/C8051F38x.pdf
footprint SLAB-LQFP-32_N (QFP, 32-Leads, Body 7x7mm, Pitch 0.8mm, IPC Medium Density)
footprint SLAB-LQFP-32_L (QFP, 32-Leads, Body 7x7mm, Pitch 0.8mm, IPC High Density)
footprint SLAB-LQFP-32_M (QFP, 32-Leads, Body 7x7mm, Pitch 0.8mm, IPC Low Density)
pins: 1 P0.1 (io) "Port 0.1.", 2 P0.0 (io) "Port 0.0.", 3 GND (power) "Ground.", 4 VDD (power) "Power Supply Voltage.", 5 ~{RST}/C2CK (io), 6 P3.0/C2D (io), 7 P3.1 (io) "Port 3.1.", 8 P3.2 (io) "Port 3.2.", 9 P3.3 (io) "Port 3.3.", 10 P3.4 (io) "Port 3.4.", 11 P2.7 (io) "Port 2.7.", 12 P2.6 (io) "Port 2.6.", 13 P2.5 (io) "Port 2.5.", 14 P2.4 (io) "Port 2.4.", 15 P2.3 (io) "Port 2.3.", 16 P2.2 (io) "Port 2.2.", 17 P2.1 (io) "Port 2.1.", 18 P2.0 (io) "Port 2.0", 19 P1.7 (io) "Port 1.7.", 20 P1.6 (io) "Port 1.6.", 21 P1.5 (io) "Port 1.5.", 22 P1.4 (io) "Port 1.4.", 23 P1.3 (io) "Port 1.3.", 24 P1.2 (io) "Port 1.2.", 25 P1.1 (io) "Port 1.1.", 26 P1.0 (io) "Port 1.0", 27 P0.7 (io) "Port 0.7", 28 P0.6 (io) "Port 0.6", 29 P0.5 (io) "Port 0.5", 30 P0.4 (io) "Port 0.4", 31 P0.3 (io) "Port 0.3", 32 P0.2/VPP (io)

## C8051T613-GM
designator U?
Mixed-Signal Byte-Programmable EPROM MCU, 25 MHz, 1.25 kB RAM, 8 kB OTP Flash, -40 to 85 degC, 28-pin QFN; Manufacturer: Silicon Labs; PartNumber: C8051T613-GM; ADC 1: 10-bit, 17-ch., 500 ksps; Comparators: 2; Debug Interface: C2; Dig I/O Pins: 25; Flash: 8 kB OTP; Internal Osc. Accuracy: +/-2%; MCU Core: 8051; PCA Channels: 5; RAM: 1.25 kB; Temp Sensor: TRUE; Timers (16-bit): 4; Sub-Family: Small Form Factor MCUs; DatasheetVersion: Rev. 1.1; PackageReference: QFN-28; PackageDescription: 28-Pin Quad-Flat No-Leads Package, Body 5 x 5 mm, Pitch 0.5 mm; Supplier 1: Digi-Key; Supplier Part Number 1: 336-1440-5-ND; Supplier 2: Mouser; Supplier Part Number 2: 634-C8051T613-GM; MHz: 25; Mounting Technology: Surface Mount; Code_JEDEC: MO-220; Code_IPC: J-STD-020C; ComponentLink1Description: Manufacturer URL; ComponentLink1URL: http://www.silabs.com/; ComponentLink2Description: Datasheet; ComponentLink2URL: http://www.silabs.com/Support Documents/TechnicalDocs/C8051T61x.pdf; ComponentLink3Description: Package Specification; ComponentLink3URL: http://www.silabs.com/Support%20Documents/TechnicalDocs/C8051T61x.pdf
footprint SLAB-QFN-28-3125x3125TP_N (QFN, 28-Leads, Body 5x5mm, Pitch 0.5mm, Thermal Pad 3.13x3.13mm, IPC Medium Density)
footprint SLAB-QFN-28-3125x3125TP_L (QFN, 28-Leads, Body 5x5mm, Pitch 0.5mm, Thermal Pad 3.13x3.13mm, IPC High Density)
footprint SLAB-QFN-28-3125x3125TP_M (QFN, 28-Leads, Body 5x5mm, Pitch 0.5mm, Thermal Pad 3.13x3.13mm, IPC Low Density)
pins: 1 P0.1 (io) "Port 0.1.", 2 P0.0 (io) "Port 0.0.", 3 GND (power) "Ground.", 4 VDD (power) "Power Supply Voltage.", 5 ~{RST}/C2CK (io), 6 P3.0/C2D (io), 7 P2.7 (io) "Port 2.7.", 8 P2.6 (io) "Port 2.6.", 9 P2.5 (io) "Port 2.5.", 10 P2.4 (io) "Port 2.4.", 11 P2.3 (io) "Port 2.3.", 12 P2.2 (io) "Port 2.2.", 13 P2.1 (io) "Port 2.1.", 14 P2.0 (io) "Port 2.0", 15 P1.7 (io) "Port 1.7.", 16 P1.6 (io) "Port 1.6.", 17 P1.5 (io) "Port 1.5.", 18 P1.4 (io) "Port 1.4.", 19 P1.3 (io) "Port 1.3.", 20 P1.2 (io) "Port 1.2.", 21 P1.1 (io) "Port 1.1.", 22 P1.0 (io) "Port 1.0", 23 P0.7 (io) "Port 0.7", 24 P0.6 (io) "Port 0.6", 25 P0.5 (io) "Port 0.5", 26 P0.4 (io) "Port 0.4", 27 P0.3 (io) "Port 0.3", 28 P0.2/VPP (io), 29 GND (power)

## C8051T614-GQ
designator U?
Mixed-Signal Byte-Programmable EPROM MCU, 25 MHz, 1.25 kB RAM, 8 kB OTP Flash, -40 to 85 degC, 32-pin QFP; Manufacturer: Silicon Labs; PartNumber: C8051T614-GQ; Comparators: 2; Debug Interface: C2; Dig I/O Pins: 29; Flash: 8 kB OTP; Internal Osc. Accuracy: +/-2%; MCU Core: 8051; MHz: 25; PCA Channels: 5; RAM: 1.25 kB; Temp Sensor: FALSE; Timers (16-bit): 4; Sub-Family: Small Form Factor MCUs; DatasheetVersion: Rev. 1.1; PackageReference: LQFP-32; PackageDescription: 32-Pin Low-Profile Quad Flat Pack, Body 7 x 7 mm, Pitch 0.8 mm; Supplier 1: Digi-Key; Supplier Part Number 1: 336-1441-ND; Supplier 2: Mouser; Supplier Part Number 2: 634-C8051T614-GQ; Mounting Technology: Surface Mount; Code_JEDEC: MS-026; Code_IPC: J-STD-020; ComponentLink1Description: Manufacturer URL; ComponentLink1URL: http://www.silabs.com/; ComponentLink2Description: Datasheet; ComponentLink2URL: http://www.silabs.com/Support Documents/TechnicalDocs/C8051T61x.pdf; ComponentLink3Description: Package Specification; ComponentLink3URL: http://www.silabs.com/Support%20Documents/TechnicalDocs/C8051F38x.pdf
footprint SLAB-LQFP-32_N (QFP, 32-Leads, Body 7x7mm, Pitch 0.8mm, IPC Medium Density)
footprint SLAB-LQFP-32_L (QFP, 32-Leads, Body 7x7mm, Pitch 0.8mm, IPC High Density)
footprint SLAB-LQFP-32_M (QFP, 32-Leads, Body 7x7mm, Pitch 0.8mm, IPC Low Density)
pins: 1 P0.1 (io) "Port 0.1.", 2 P0.0 (io) "Port 0.0.", 3 GND (power) "Ground.", 4 VDD (power) "Power Supply Voltage.", 5 ~{RST}/C2CK (io), 6 P3.0/C2D (io), 7 P3.1 (io) "Port 3.1.", 8 P3.2 (io) "Port 3.2.", 9 P3.3 (io) "Port 3.3.", 10 P3.4 (io) "Port 3.4.", 11 P2.7 (io) "Port 2.7.", 12 P2.6 (io) "Port 2.6.", 13 P2.5 (io) "Port 2.5.", 14 P2.4 (io) "Port 2.4.", 15 P2.3 (io) "Port 2.3.", 16 P2.2 (io) "Port 2.2.", 17 P2.1 (io) "Port 2.1.", 18 P2.0 (io) "Port 2.0", 19 P1.7 (io) "Port 1.7.", 20 P1.6 (io) "Port 1.6.", 21 P1.5 (io) "Port 1.5.", 22 P1.4 (io) "Port 1.4.", 23 P1.3 (io) "Port 1.3.", 24 P1.2 (io) "Port 1.2.", 25 P1.1 (io) "Port 1.1.", 26 P1.0 (io) "Port 1.0", 27 P0.7 (io) "Port 0.7", 28 P0.6 (io) "Port 0.6", 29 P0.5 (io) "Port 0.5", 30 P0.4 (io) "Port 0.4", 31 P0.3 (io) "Port 0.3", 32 P0.2/VPP (io)

## C8051T615-GM
designator U?
Mixed-Signal Byte-Programmable EPROM MCU, 25 MHz, 1.25 kB RAM, 8 kB OTP Flash, -40 to 85 degC, 28-pin QFN; Manufacturer: Silicon Labs; PartNumber: C8051T615-GM; Comparators: 2; Debug Interface: C2; Dig I/O Pins: 25; Flash: 8 kB OTP; Internal Osc. Accuracy: +/-2%; MCU Core: 8051; PCA Channels: 5; RAM: 1.25 kB; Temp Sensor: FALSE; Timers (16-bit): 4; Sub-Family: Small Form Factor MCUs; DatasheetVersion: Rev. 1.1; PackageReference: QFN-28; PackageDescription: 28-Pin Quad-Flat No-Leads Package, Body 5 x 5 mm, Pitch 0.5 mm; Supplier 1: Digi-Key; Supplier Part Number 1: 336-1442-5-ND; Supplier 2: Mouser; Supplier Part Number 2: 634-C8051T615-GM; MHz: 25; Mounting Technology: Surface Mount; Code_JEDEC: MO-220; Code_IPC: J-STD-020C; ComponentLink1Description: Manufacturer URL; ComponentLink1URL: http://www.silabs.com/; ComponentLink2Description: Datasheet; ComponentLink2URL: http://www.silabs.com/Support Documents/TechnicalDocs/C8051T61x.pdf; ComponentLink3Description: Package Specification; ComponentLink3URL: http://www.silabs.com/Support%20Documents/TechnicalDocs/C8051T61x.pdf
footprint SLAB-QFN-28-3125x3125TP_N (QFN, 28-Leads, Body 5x5mm, Pitch 0.5mm, Thermal Pad 3.13x3.13mm, IPC Medium Density)
footprint SLAB-QFN-28-3125x3125TP_L (QFN, 28-Leads, Body 5x5mm, Pitch 0.5mm, Thermal Pad 3.13x3.13mm, IPC High Density)
footprint SLAB-QFN-28-3125x3125TP_M (QFN, 28-Leads, Body 5x5mm, Pitch 0.5mm, Thermal Pad 3.13x3.13mm, IPC Low Density)
pins: 1 P0.1 (io) "Port 0.1.", 2 P0.0 (io) "Port 0.0.", 3 GND (power) "Ground.", 4 VDD (power) "Power Supply Voltage.", 5 ~{RST}/C2CK (io), 6 P3.0/C2D (io), 7 P2.7 (io) "Port 2.7.", 8 P2.6 (io) "Port 2.6.", 9 P2.5 (io) "Port 2.5.", 10 P2.4 (io) "Port 2.4.", 11 P2.3 (io) "Port 2.3.", 12 P2.2 (io) "Port 2.2.", 13 P2.1 (io) "Port 2.1.", 14 P2.0 (io) "Port 2.0", 15 P1.7 (io) "Port 1.7.", 16 P1.6 (io) "Port 1.6.", 17 P1.5 (io) "Port 1.5.", 18 P1.4 (io) "Port 1.4.", 19 P1.3 (io) "Port 1.3.", 20 P1.2 (io) "Port 1.2.", 21 P1.1 (io) "Port 1.1.", 22 P1.0 (io) "Port 1.0", 23 P0.7 (io) "Port 0.7", 24 P0.6 (io) "Port 0.6", 25 P0.5 (io) "Port 0.5", 26 P0.4 (io) "Port 0.4", 27 P0.3 (io) "Port 0.3", 28 P0.2/VPP (io), 29 GND (power)

## C8051T616-GM
designator U?
Mixed-Signal Byte-Programmable EPROM MCU, 25 MHz, 1.25 kB RAM, 16 kB OTP Flash, -40 to 85 degC, 24-pin QFN; Manufacturer: Silicon Labs; PartNumber: C8051T616-GM; ADC 1: 10-bit, 13-ch., 500 ksps; Comparators: 2; Debug Interface: C2; Dig I/O Pins: 21; Internal Osc. Accuracy: +/-2%; MCU Core: 8051; MHz: 25; PCA Channels: 5; RAM: 1.25 kB; Temp Sensor: TRUE; Timers (16-bit): 4; Sub-Family: Small Form Factor MCUs; DatasheetVersion: Rev. 1.1; PackageReference: QFN-24; PackageDescription: 24-Pin Quad-Flat No-Leads Package, Body 4 x 4 mm, Pitch 0.5 mm; Supplier 1: Digi-Key; Supplier Part Number 1: 336-1437-5-ND; Supplier 2: Mouser; Supplier Part Number 2: 634-C8051T616-GM; Flash: 16 kB OTP; Mounting Technology: Surface Mount; Code_JEDEC: MO-220; Code_IPC: J-STD-020; ComponentLink1Description: Manufacturer URL; ComponentLink1URL: http://www.silabs.com/; ComponentLink2Description: Datasheet; ComponentLink2URL: http://www.silabs.com/Support Documents/TechnicalDocs/C8051T61x.pdf; ComponentLink3Description: Package Specification; ComponentLink3URL: http://www.silabs.com/Support%20Documents/TechnicalDocs/C8051F93x-92x.pdf
footprint SLAB-QFN-24-2675x2675TP_N (QFN, 24-Leads, Body 4x4mm, Pitch 0.5mm, Thermal Pad 2.68x2.68mm, IPC Medium Density)
footprint SLAB-QFN-24-2675x2675TP_L (QFN, 24-Leads, Body 4x4mm, Pitch 0.5mm, Thermal Pad 2.68x2.68mm, IPC High Density)
footprint SLAB-QFN-24-2675x2675TP_M (QFN, 24-Leads, Body 4x4mm, Pitch 0.5mm, Thermal Pad 2.68x2.68mm, IPC Low Density)
pins: 1 P0.1 (io) "Port 0.1.", 2 P0.0 (io) "Port 0.0.", 3 GND (power) "Ground.", 4 VDD (power) "Power Supply Voltage.", 5 ~{RST}/C2CK (io), 6 P3.0/C2D (io), 7 P2.5 (io) "Port 2.5.", 8 P2.4 (io) "Port 2.4.", 9 P2.3 (io) "Port 2.3.", 10 P2.2 (io) "Port 2.2.", 11 P2.1 (io) "Port 2.1.", 12 P2.0 (io) "Port 2.0.", 13 P1.5 (io) "Port 1.5.", 14 P1.4 (io) "Port 1.4.", 15 P1.3 (io) "Port 1.3.", 16 P1.2 (io) "Port 1.2.", 17 P1.1 (io) "Port 1.1.", 18 P1.0 (io) "Port 1.0.", 19 P0.7 (io) "Port 0.7.", 20 P0.6 (io) "Port 0.6.", 21 P0.5 (io) "Port 0.5.", 22 P0.4 (io) "Port 0.4.", 23 P0.3 (io) "Port 0.3.", 24 P0.2/VPP (io), 25 GND (power) "Ground."

## C8051T617-GM
designator U?
Mixed-Signal Byte-Programmable EPROM MCU, 25 MHz, 1.25 kB RAM, 16 kB OTP Flash, -40 to 85 degC, 24-pin QFN; Manufacturer: Silicon Labs; PartNumber: C8051T617-GM; Comparators: 2; Debug Interface: C2; Dig I/O Pins: 21; Internal Osc. Accuracy: +/-2%; MCU Core: 8051; MHz: 25; PCA Channels: 5; RAM: 1.25 kB; Temp Sensor: FALSE; Timers (16-bit): 4; Sub-Family: Small Form Factor MCUs; DatasheetVersion: Rev. 1.1; PackageReference: QFN-24; PackageDescription: 24-Pin Quad-Flat No-Leads Package, Body 4 x 4 mm, Pitch 0.5 mm; Supplier 1: Digi-Key; Supplier Part Number 1: 336-1438-5-ND; Supplier 2: Mouser; Supplier Part Number 2: 634-C8051T617-GM; Flash: 16 kB OTP; Mounting Technology: Surface Mount; Code_JEDEC: MO-220; Code_IPC: J-STD-020; ComponentLink1Description: Manufacturer URL; ComponentLink1URL: http://www.silabs.com/; ComponentLink2Description: Datasheet; ComponentLink2URL: http://www.silabs.com/Support Documents/TechnicalDocs/C8051T61x.pdf; ComponentLink3Description: Package Specification; ComponentLink3URL: http://www.silabs.com/Support%20Documents/TechnicalDocs/C8051F93x-92x.pdf
footprint SLAB-QFN-24-2675x2675TP_N (QFN, 24-Leads, Body 4x4mm, Pitch 0.5mm, Thermal Pad 2.68x2.68mm, IPC Medium Density)
footprint SLAB-QFN-24-2675x2675TP_L (QFN, 24-Leads, Body 4x4mm, Pitch 0.5mm, Thermal Pad 2.68x2.68mm, IPC High Density)
footprint SLAB-QFN-24-2675x2675TP_M (QFN, 24-Leads, Body 4x4mm, Pitch 0.5mm, Thermal Pad 2.68x2.68mm, IPC Low Density)
pins: 1 P0.1 (io) "Port 0.1.", 2 P0.0 (io) "Port 0.0.", 3 GND (power) "Ground.", 4 VDD (power) "Power Supply Voltage.", 5 ~{RST}/C2CK (io), 6 P3.0/C2D (io), 7 P2.5 (io) "Port 2.5.", 8 P2.4 (io) "Port 2.4.", 9 P2.3 (io) "Port 2.3.", 10 P2.2 (io) "Port 2.2.", 11 P2.1 (io) "Port 2.1.", 12 P2.0 (io) "Port 2.0.", 13 P1.5 (io) "Port 1.5.", 14 P1.4 (io) "Port 1.4.", 15 P1.3 (io) "Port 1.3.", 16 P1.2 (io) "Port 1.2.", 17 P1.1 (io) "Port 1.1.", 18 P1.0 (io) "Port 1.0.", 19 P0.7 (io) "Port 0.7.", 20 P0.6 (io) "Port 0.6.", 21 P0.5 (io) "Port 0.5.", 22 P0.4 (io) "Port 0.4.", 23 P0.3 (io) "Port 0.3.", 24 P0.2/VPP (io), 25 GND (power) "Ground."

## C8051T630-GM
designator U?
Mixed-Signal Byte-Programmable EPROM MCU, 25 MHz, 0.75 kB RAM, 8 kB OTP Flash, -40 to 85 degC, 20-pin QFN; Manufacturer: Silicon Labs; PartNumber: C8051T630-GM; ADC 1: 10-bit, 16-ch., 500 ksps; Comparators: 1; DAC: 10-bit, 1-ch.; Debug Interface: C2; Dig I/O Pins: 17; Flash: 8 kB OTP; Internal Osc. Accuracy: +/-2%; MCU Core: 8051; MHz: 25; PCA Channels: 3; RAM: 0.75 kB; Temp Sensor: TRUE; Timers (16-bit): 4; Sub-Family: Small Form Factor MCUs; DatasheetVersion: Rev. 1.0; PackageReference: QFN-20; PackageDescription: 20-Pin Quad-Flat No-Leads Package, Body 4 x 4 mm, Pitch 0.5 mm; Supplier 1: Digi-Key; Supplier Part Number 1: 336-1458-5-ND; Supplier 2: Mouser; Supplier Part Number 2: 634-C8051T630-GM; Mounting Technology: Surface Mount; Code_JEDEC: MO-220; Code_IPC: J-STD-020; ComponentLink1Description: Manufacturer URL; ComponentLink1URL: http://www.silabs.com/; ComponentLink2Description: Datasheet; ComponentLink2URL: http://www.silabs.com/Support Documents/TechnicalDocs/C8051T63x.pdf; ComponentLink3Description: Package Specification; ComponentLink3URL: http://www.silabs.com/Support%20Documents/TechnicalDocs/C8051F80x-83x.pdf
footprint SLAB-QFN-20-2125x2125TP_N (QFN, 20-Leads, Body 4x4mm, Pitch 0.5mm, Thermal Pad 2.13x2.13mm, IPC Medium Density)
footprint SLAB-QFN-20-2125x2125TP_L (QFN, 20-Leads, Body 4x4mm, Pitch 0.5mm, Thermal Pad 2.13x2.13mm, IPC High Density)
footprint SLAB-QFN-20-2125x2125TP_M (QFN, 20-Leads, Body 4x4mm, Pitch 0.5mm, Thermal Pad 2.13x2.13mm, IPC Low Density)
pins: 1 P0.0/VREF (io), 2 GND (power) "Ground.", 3 VDD (power) "Power Supply Voltage.", 4 ~{RST}/C2CK (io), 5 P2.0/C2D (io), 6 P1.7 (io) "Port 1.7.", 7 P1.6 (io) "Port 1.6.", 8 P1.5 (io) "Port 1.5.", 9 P1.4 (io) "Port 1.4.", 10 P1.3 (io) "Port 1.3.", 11 P1.2 (io) "Port 1.2.", 12 P1.1 (io) "Port 1.1.", 13 P1.0 (io) "Port 1.0.", 14 P0.7 (io) "Port 0.7.", 15 P0.6/CNVSTR (io), 16 P0.5 (io) "Port 0.5.", 17 P0.4 (io) "Port 0.4.", 18 P0.3/EXTCLK (io), 19 P0.2/VPP (io), 20 P0.1/IDA0 (io), 21 GND (power) "Ground."

## C8051T631-GM
designator U?
Mixed-Signal Byte-Programmable EPROM MCU, 25 MHz, 0.75 kB RAM, 8 kB OTP Flash, -40 to 85 degC, 20-pin QFN; Manufacturer: Silicon Labs; PartNumber: C8051T631-GM; Comparators: 1; Debug Interface: C2; Dig I/O Pins: 17; Flash: 8 kB OTP; Internal Osc. Accuracy: +/-2%; MCU Core: 8051; MHz: 25; PCA Channels: 3; RAM: 0.75 kB; Temp Sensor: FALSE; Timers (16-bit): 4; Sub-Family: Small Form Factor MCUs; DatasheetVersion: Rev. 1.0; PackageReference: QFN-20; PackageDescription: 20-Pin Quad-Flat No-Leads Package, Body 4 x 4 mm, Pitch 0.5 mm; Supplier 1: Digi-Key; Supplier Part Number 1: 336-1459-5-ND; Supplier 2: Mouser; Supplier Part Number 2: 634-C8051T631-GM; Mounting Technology: Surface Mount; Code_JEDEC: MO-220; Code_IPC: J-STD-020; ComponentLink1Description: Manufacturer URL; ComponentLink1URL: http://www.silabs.com/; ComponentLink2Description: Datasheet; ComponentLink2URL: http://www.silabs.com/Support Documents/TechnicalDocs/C8051T63x.pdf; ComponentLink3Description: Package Specification; ComponentLink3URL: http://www.silabs.com/Support%20Documents/TechnicalDocs/C8051F80x-83x.pdf
footprint SLAB-QFN-20-2125x2125TP_N (QFN, 20-Leads, Body 4x4mm, Pitch 0.5mm, Thermal Pad 2.13x2.13mm, IPC Medium Density)
footprint SLAB-QFN-20-2125x2125TP_L (QFN, 20-Leads, Body 4x4mm, Pitch 0.5mm, Thermal Pad 2.13x2.13mm, IPC High Density)
footprint SLAB-QFN-20-2125x2125TP_M (QFN, 20-Leads, Body 4x4mm, Pitch 0.5mm, Thermal Pad 2.13x2.13mm, IPC Low Density)
pins: 1 P0.0/VREF (io), 2 GND (power) "Ground.", 3 VDD (power) "Power Supply Voltage.", 4 ~{RST}/C2CK (io), 5 P2.0/C2D (io), 6 P1.7 (io) "Port 1.7.", 7 P1.6 (io) "Port 1.6.", 8 P1.5 (io) "Port 1.5.", 9 P1.4 (io) "Port 1.4.", 10 P1.3 (io) "Port 1.3.", 11 P1.2 (io) "Port 1.2.", 12 P1.1 (io) "Port 1.1.", 13 P1.0 (io) "Port 1.0.", 14 P0.7 (io) "Port 0.7.", 15 P0.6/CNVSTR (io), 16 P0.5 (io) "Port 0.5.", 17 P0.4 (io) "Port 0.4.", 18 P0.3/EXTCLK (io), 19 P0.2/VPP (io), 20 P0.1/IDA0 (io), 21 GND (power) "Ground."

## C8051T632-GM
designator U?
Mixed-Signal Byte-Programmable EPROM MCU, 25 MHz, 0.75 kB RAM, 4 kB OTP Flash, -40 to 85 degC, 20-pin QFN; Manufacturer: Silicon Labs; PartNumber: C8051T632-GM; ADC 1: 10-bit, 16-ch., 500 ksps; Comparators: 1; DAC: 10-bit, 1-ch.; Debug Interface: C2; Dig I/O Pins: 17; Flash: 4 kB OTP; Internal Osc. Accuracy: +/-2%; MCU Core: 8051; MHz: 25; PCA Channels: 3; RAM: 0.75 kB; Temp Sensor: TRUE; Timers (16-bit): 4; Sub-Family: Small Form Factor MCUs; DatasheetVersion: Rev. 1.0; PackageReference: QFN-20; PackageDescription: 20-Pin Quad-Flat No-Leads Package, Body 4 x 4 mm, Pitch 0.5 mm; Supplier 1: Digi-Key; Supplier Part Number 1: 336-1460-5-ND; Supplier 2: Mouser; Supplier Part Number 2: 634-C8051T632-GM; Mounting Technology: Surface Mount; Code_JEDEC: MO-220; Code_IPC: J-STD-020; ComponentLink1Description: Manufacturer URL; ComponentLink1URL: http://www.silabs.com/; ComponentLink2Description: Datasheet; ComponentLink2URL: http://www.silabs.com/Support Documents/TechnicalDocs/C8051T63x.pdf; ComponentLink3Description: Package Specification; ComponentLink3URL: http://www.silabs.com/Support%20Documents/TechnicalDocs/C8051F80x-83x.pdf
footprint SLAB-QFN-20-2125x2125TP_N (QFN, 20-Leads, Body 4x4mm, Pitch 0.5mm, Thermal Pad 2.13x2.13mm, IPC Medium Density)
footprint SLAB-QFN-20-2125x2125TP_L (QFN, 20-Leads, Body 4x4mm, Pitch 0.5mm, Thermal Pad 2.13x2.13mm, IPC High Density)
footprint SLAB-QFN-20-2125x2125TP_M (QFN, 20-Leads, Body 4x4mm, Pitch 0.5mm, Thermal Pad 2.13x2.13mm, IPC Low Density)
pins: 1 P0.0/VREF (io), 2 GND (power) "Ground.", 3 VDD (power) "Power Supply Voltage.", 4 ~{RST}/C2CK (io), 5 P2.0/C2D (io), 6 P1.7 (io) "Port 1.7.", 7 P1.6 (io) "Port 1.6.", 8 P1.5 (io) "Port 1.5.", 9 P1.4 (io) "Port 1.4.", 10 P1.3 (io) "Port 1.3.", 11 P1.2 (io) "Port 1.2.", 12 P1.1 (io) "Port 1.1.", 13 P1.0 (io) "Port 1.0.", 14 P0.7 (io) "Port 0.7.", 15 P0.6/CNVSTR (io), 16 P0.5 (io) "Port 0.5.", 17 P0.4 (io) "Port 0.4.", 18 P0.3/EXTCLK (io), 19 P0.2/VPP (io), 20 P0.1/IDA0 (io), 21 GND (power) "Ground."

## C8051T633-GM
designator U?
Mixed-Signal Byte-Programmable EPROM MCU, 25 MHz, 0.75 kB RAM, 4 kB OTP Flash, -40 to 85 degC, 20-pin QFN; Manufacturer: Silicon Labs; PartNumber: C8051T633-GM; Comparators: 1; Debug Interface: C2; Dig I/O Pins: 17; Flash: 4 kB OTP; Internal Osc. Accuracy: +/-2%; MCU Core: 8051; MHz: 25; PCA Channels: 3; RAM: 0.75 kB; Temp Sensor: FALSE; Timers (16-bit): 4; Sub-Family: Small Form Factor MCUs; DatasheetVersion: Rev. 1.0; PackageReference: QFN-20; PackageDescription: 20-Pin Quad-Flat No-Leads Package, Body 4 x 4 mm, Pitch 0.5 mm; Supplier 1: Digi-Key; Supplier Part Number 1: 336-1461-5-ND; Supplier 2: Mouser; Supplier Part Number 2: 634-C8051T633-GM; Mounting Technology: Surface Mount; Code_JEDEC: MO-220; Code_IPC: J-STD-020; ComponentLink1Description: Manufacturer URL; ComponentLink1URL: http://www.silabs.com/; ComponentLink2Description: Datasheet; ComponentLink2URL: http://www.silabs.com/Support Documents/TechnicalDocs/C8051T63x.pdf; ComponentLink3Description: Package Specification; ComponentLink3URL: http://www.silabs.com/Support%20Documents/TechnicalDocs/C8051F80x-83x.pdf
footprint SLAB-QFN-20-2125x2125TP_N (QFN, 20-Leads, Body 4x4mm, Pitch 0.5mm, Thermal Pad 2.13x2.13mm, IPC Medium Density)
footprint SLAB-QFN-20-2125x2125TP_L (QFN, 20-Leads, Body 4x4mm, Pitch 0.5mm, Thermal Pad 2.13x2.13mm, IPC High Density)
footprint SLAB-QFN-20-2125x2125TP_M (QFN, 20-Leads, Body 4x4mm, Pitch 0.5mm, Thermal Pad 2.13x2.13mm, IPC Low Density)
pins: 1 P0.0/VREF (io), 2 GND (power) "Ground.", 3 VDD (power) "Power Supply Voltage.", 4 ~{RST}/C2CK (io), 5 P2.0/C2D (io), 6 P1.7 (io) "Port 1.7.", 7 P1.6 (io) "Port 1.6.", 8 P1.5 (io) "Port 1.5.", 9 P1.4 (io) "Port 1.4.", 10 P1.3 (io) "Port 1.3.", 11 P1.2 (io) "Port 1.2.", 12 P1.1 (io) "Port 1.1.", 13 P1.0 (io) "Port 1.0.", 14 P0.7 (io) "Port 0.7.", 15 P0.6/CNVSTR (io), 16 P0.5 (io) "Port 0.5.", 17 P0.4 (io) "Port 0.4.", 18 P0.3/EXTCLK (io), 19 P0.2/VPP (io), 20 P0.1/IDA0 (io), 21 GND (power) "Ground."

## C8051T634-GM
designator U?
Mixed-Signal Byte-Programmable EPROM MCU, 25 MHz, 0.75 kB RAM, 2 kB OTP Flash, -40 to 85 degC, 20-pin QFN; Manufacturer: Silicon Labs; PartNumber: C8051T634-GM; ADC 1: 10-bit, 16-ch., 500 ksps; Comparators: 1; DAC: 10-bit, 1-ch.; Debug Interface: C2; Dig I/O Pins: 17; Flash: 2 kB OTP; Internal Osc. Accuracy: +/-2%; MCU Core: 8051; MHz: 25; PCA Channels: 3; RAM: 0.75 kB; Temp Sensor: TRUE; Timers (16-bit): 4; Sub-Family: Small Form Factor MCUs; DatasheetVersion: Rev. 1.0; PackageReference: QFN-20; PackageDescription: 20-Pin Quad-Flat No-Leads Package, Body 4 x 4 mm, Pitch 0.5 mm; Supplier 1: Digi-Key; Supplier Part Number 1: 336-1462-5-ND; Supplier 2: Mouser; Supplier Part Number 2: 634-C8051T634-GM; Mounting Technology: Surface Mount; Code_JEDEC: MO-220; Code_IPC: J-STD-020; ComponentLink1Description: Manufacturer URL; ComponentLink1URL: http://www.silabs.com/; ComponentLink2Description: Datasheet; ComponentLink2URL: http://www.silabs.com/Support Documents/TechnicalDocs/C8051T63x.pdf; ComponentLink3Description: Package Specification; ComponentLink3URL: http://www.silabs.com/Support%20Documents/TechnicalDocs/C8051F80x-83x.pdf
footprint SLAB-QFN-20-2125x2125TP_N (QFN, 20-Leads, Body 4x4mm, Pitch 0.5mm, Thermal Pad 2.13x2.13mm, IPC Medium Density)
footprint SLAB-QFN-20-2125x2125TP_L (QFN, 20-Leads, Body 4x4mm, Pitch 0.5mm, Thermal Pad 2.13x2.13mm, IPC High Density)
footprint SLAB-QFN-20-2125x2125TP_M (QFN, 20-Leads, Body 4x4mm, Pitch 0.5mm, Thermal Pad 2.13x2.13mm, IPC Low Density)
pins: 1 P0.0/VREF (io), 2 GND (power) "Ground.", 3 VDD (power) "Power Supply Voltage.", 4 ~{RST}/C2CK (io), 5 P2.0/C2D (io), 6 P1.7 (io) "Port 1.7.", 7 P1.6 (io) "Port 1.6.", 8 P1.5 (io) "Port 1.5.", 9 P1.4 (io) "Port 1.4.", 10 P1.3 (io) "Port 1.3.", 11 P1.2 (io) "Port 1.2.", 12 P1.1 (io) "Port 1.1.", 13 P1.0 (io) "Port 1.0.", 14 P0.7 (io) "Port 0.7.", 15 P0.6/CNVSTR (io), 16 P0.5 (io) "Port 0.5.", 17 P0.4 (io) "Port 0.4.", 18 P0.3/EXTCLK (io), 19 P0.2/VPP (io), 20 P0.1/IDA0 (io), 21 GND (power) "Ground."

## C8051T635-GM
designator U?
Mixed-Signal Byte-Programmable EPROM MCU, 25 MHz, 0.75 kB RAM, 2 kB OTP Flash, -40 to 85 degC, 20-pin QFN; Manufacturer: Silicon Labs; PartNumber: C8051T635-GM; Comparators: 1; Debug Interface: C2; Dig I/O Pins: 17; Flash: 2 kB OTP; Internal Osc. Accuracy: +/-2%; MCU Core: 8051; MHz: 25; PCA Channels: 3; RAM: 0.75 kB; Temp Sensor: FALSE; Timers (16-bit): 4; Sub-Family: Small Form Factor MCUs; DatasheetVersion: Rev. 1.0; PackageReference: QFN-20; PackageDescription: 20-Pin Quad-Flat No-Leads Package, Body 4 x 4 mm, Pitch 0.5 mm; Supplier 1: Digi-Key; Supplier Part Number 1: 336-1463-5-ND; Supplier 2: Mouser; Supplier Part Number 2: 634-C8051T635-GM; Mounting Technology: Surface Mount; Code_JEDEC: MO-220; Code_IPC: J-STD-020; ComponentLink1Description: Manufacturer URL; ComponentLink1URL: http://www.silabs.com/; ComponentLink2Description: Datasheet; ComponentLink2URL: http://www.silabs.com/Support Documents/TechnicalDocs/C8051T63x.pdf; ComponentLink3Description: Package Specification; ComponentLink3URL: http://www.silabs.com/Support%20Documents/TechnicalDocs/C8051F80x-83x.pdf
footprint SLAB-QFN-20-2125x2125TP_N (QFN, 20-Leads, Body 4x4mm, Pitch 0.5mm, Thermal Pad 2.13x2.13mm, IPC Medium Density)
footprint SLAB-QFN-20-2125x2125TP_L (QFN, 20-Leads, Body 4x4mm, Pitch 0.5mm, Thermal Pad 2.13x2.13mm, IPC High Density)
footprint SLAB-QFN-20-2125x2125TP_M (QFN, 20-Leads, Body 4x4mm, Pitch 0.5mm, Thermal Pad 2.13x2.13mm, IPC Low Density)
pins: 1 P0.0/VREF (io), 2 GND (power) "Ground.", 3 VDD (power) "Power Supply Voltage.", 4 ~{RST}/C2CK (io), 5 P2.0/C2D (io), 6 P1.7 (io) "Port 1.7.", 7 P1.6 (io) "Port 1.6.", 8 P1.5 (io) "Port 1.5.", 9 P1.4 (io) "Port 1.4.", 10 P1.3 (io) "Port 1.3.", 11 P1.2 (io) "Port 1.2.", 12 P1.1 (io) "Port 1.1.", 13 P1.0 (io) "Port 1.0.", 14 P0.7 (io) "Port 0.7.", 15 P0.6/CNVSTR (io), 16 P0.5 (io) "Port 0.5.", 17 P0.4 (io) "Port 0.4.", 18 P0.3/EXTCLK (io), 19 P0.2/VPP (io), 20 P0.1/IDA0 (io), 21 GND (power) "Ground."